# Altium footprint library OSC_7050_PERI.PcbLib: 1 footprints
Each footprint in its own frame and in the unit in brackets; x right, y up, seen from the top. Pads: shape width x height; smd on the part's side, far side on the other; paste and mask are expansions set on the pad; w line width, h text height; cw(c..) or ccw(c..) is an arc to the next point about the centre after c.
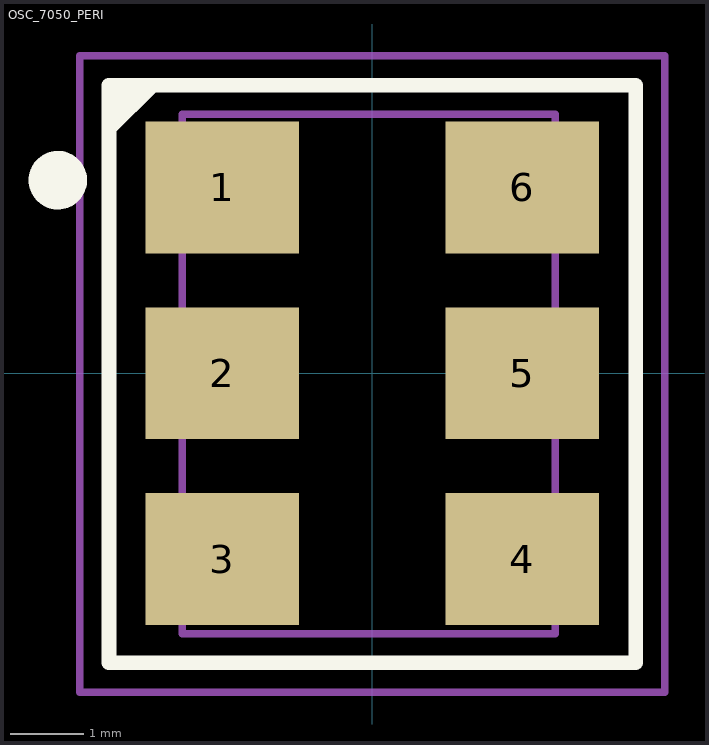
[diagram p0: the footprint, top view; thin cyan lines are the x and y axes]

## OSC_7050_PERI [mm]
pads (6):
  rect 2.1x1.8 smd: 1(-2.05,2.54) 2(-2.05,0) 3(-2.05,-2.54) 4(2.05,-2.54) 5(2.05,0) 6(2.05,2.54)
Top Overlay:
  circle w0.4: c-4.3,2.64 r0.2
  lines w0.2: -3.6,3.34 -3,3.94 ; -3.6,3.44 -3.1,3.94 ; -3.6,3.64 -3.3,3.94 ; -3.6,-3.96 3.6,-3.96 3.6,3.94 -3.6,3.94 -3.6,-3.96
Mechanical 13:
  lines w0.1: -2.6,-3.56 -2.6,3.54 2.5,3.54 2.5,-3.56 -2.6,-3.56
Mechanical 15:
  lines w0.1: -4,-4.36 4,-4.36 4,4.34 -4,4.34 -4,-4.36
3D body: height 2, standoff -0.01, extent -2.5,-3.5 2.5,3.5